# EAGLE library part TDA8571J (library Audio-Power-amlifier)
2x40W Stereo BTL Amplifier
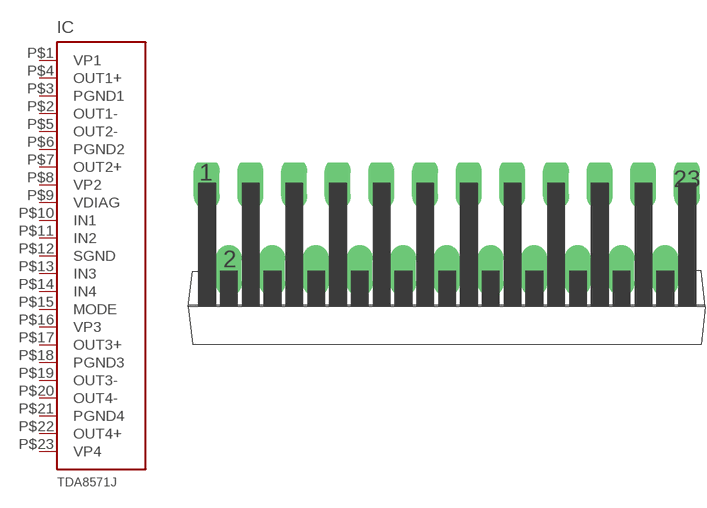
[diagram p17: symbol with the pads of SOT411-1; footprint SOT411-1]

Designator prefix IC

## TDA8571J  [SOT411-1]
P$1  VP1  pwr
P$2  OUT1-  out
P$3  PGND1  pwr
P$4  OUT1+  out
P$5  OUT2-  out
P$6  PGND2  pwr
P$7  OUT2+  out
P$8  VP2  pwr
P$9  VDIAG
P$10  IN1  in
P$11  IN2  in
P$12  SGND  pwr
P$13  IN3  in
P$14  IN4  in
P$15  MODE
P$16  VP3  pwr
P$17  OUT3+  out
P$18  PGND3  pwr
P$19  OUT3-  out
P$20  OUT4-  out
P$21  PGND4  pwr
P$22  OUT4+  out
P$23  VP4  pwr

## Footprint SOT411-1 (pad centres in mm)
drill 28.6 pad 38.1 long: P$1 -354.838,181.864; P$2 -322.58,52.832; P$3 -290.322,181.864; P$4 -258.064,52.832; P$5 -225.806,181.864; P$6 -193.548,52.832; P$7 -161.29,181.864; P$8 -129.032,52.832; P$9 -96.774,181.864; P$10 -64.516,52.832; P$11 -32.258,181.864; P$12 0,52.832; P$13 32.258,181.864; P$14 64.516,52.832; P$15 96.774,181.864; P$16 129.032,52.832; P$17 161.29,181.864; P$18 193.548,52.832; P$19 225.806,181.864; P$20 258.064,52.832; P$21 290.322,181.864; P$22 322.58,52.832; P$23 354.838,181.864